# EAGLE library part ESP-32S (library kanflo)
ESP WROOM 32 GND@P is the ground pad. The missing pad is the NC pad :)
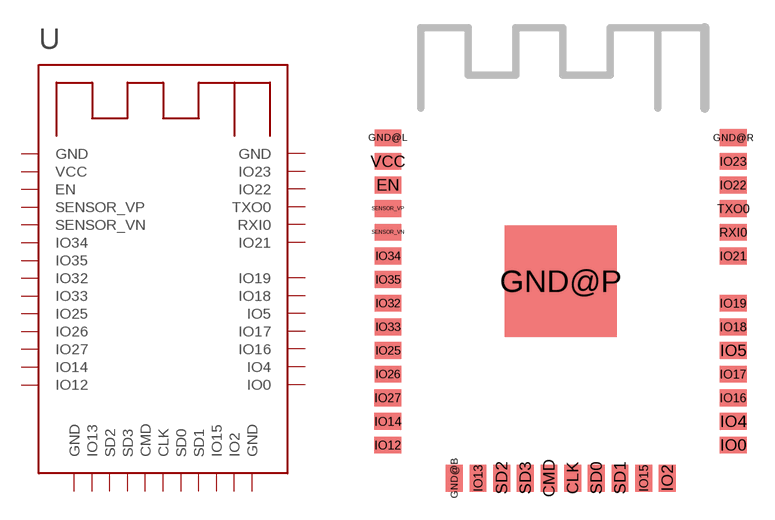
[diagram p13: symbol with the pads of ESP-32S; footprint ESP-32S]

Designator prefix U

## ESP-32S  [ESP-32S]
CLK  CLK
CMD  CMD
EN  EN
GND@B  GND  pwr
GND@L  GND  pwr
GND@P  GND  pwr
GND@R  GND  pwr
IO0  IO0
IO2  IO2
IO4  IO4
IO5  IO5
IO12  IO12
IO13  IO13
IO14  IO14
IO15  IO15
IO16  IO16
IO17  IO17
IO18  IO18
IO19  IO19
IO21  IO21
IO22  IO22
IO23  IO23
IO25  IO25
IO26  IO26
IO27  IO27
IO32  IO32
IO33  IO33
IO34  IO34
IO35  IO35
RXI0  RXI0
SD0  SD0
SD1  SD1
SD2  SD2
SD3  SD3
SENSOR_VN  SENSOR_VN
SENSOR_VP  SENSOR_VP
TXO0  TXO0
VCC  VCC  pwr

## Footprint ESP-32S (pad centres in mm)
smd 0.9 x 1.45: CLK 0.52,-10.21; CMD -0.75,-10.21; GND@B -5.83,-10.21; IO2 5.6,-10.21; IO13 -4.56,-10.21; IO15 4.33,-10.21; SD0 1.79,-10.21; SD1 3.06,-10.21; SD2 -3.29,-10.21; SD3 -2.02,-10.21
smd 1.4 x 0.9: EN -9.39,5.534; GND@L -9.39,8.065; IO25 -9.39,-3.356; IO26 -9.39,-4.626; IO32 -9.39,-0.816; IO33 -9.39,-2.086; IO34 -9.39,1.724; IO35 -9.39,0.454; SENSOR_VN -9.39,2.994; SENSOR_VP -9.39,4.264; VCC -9.39,6.804
smd 6 x 6: GND@P -0.115,0.365
smd 1.45 x 0.9: GND@R 9.14,8.074; IO0 9.14,-8.436; IO4 9.14,-7.166; IO5 9.14,-3.356; IO12 -9.39,-8.436; IO14 -9.39,-7.166; IO16 9.14,-5.896; IO17 9.14,-4.626; IO18 9.14,-2.086; IO19 9.14,-0.816; IO21 9.14,1.724; IO22 9.14,5.534; IO23 9.14,6.804; IO27 -9.39,-5.896; RXI0 9.14,2.994; TXO0 9.14,4.264